# Altium footprint library MainPcblib.PcbLib: 316 footprints (part 6 of 20)
Each footprint in its own frame and in the unit in brackets; x right, y up, seen from the top. Pads: shape width x height; smd on the part's side, far side on the other; paste and mask are expansions set on the pad; w line width, h text height; cw(c..) or ccw(c..) is an arc to the next point about the centre after c.
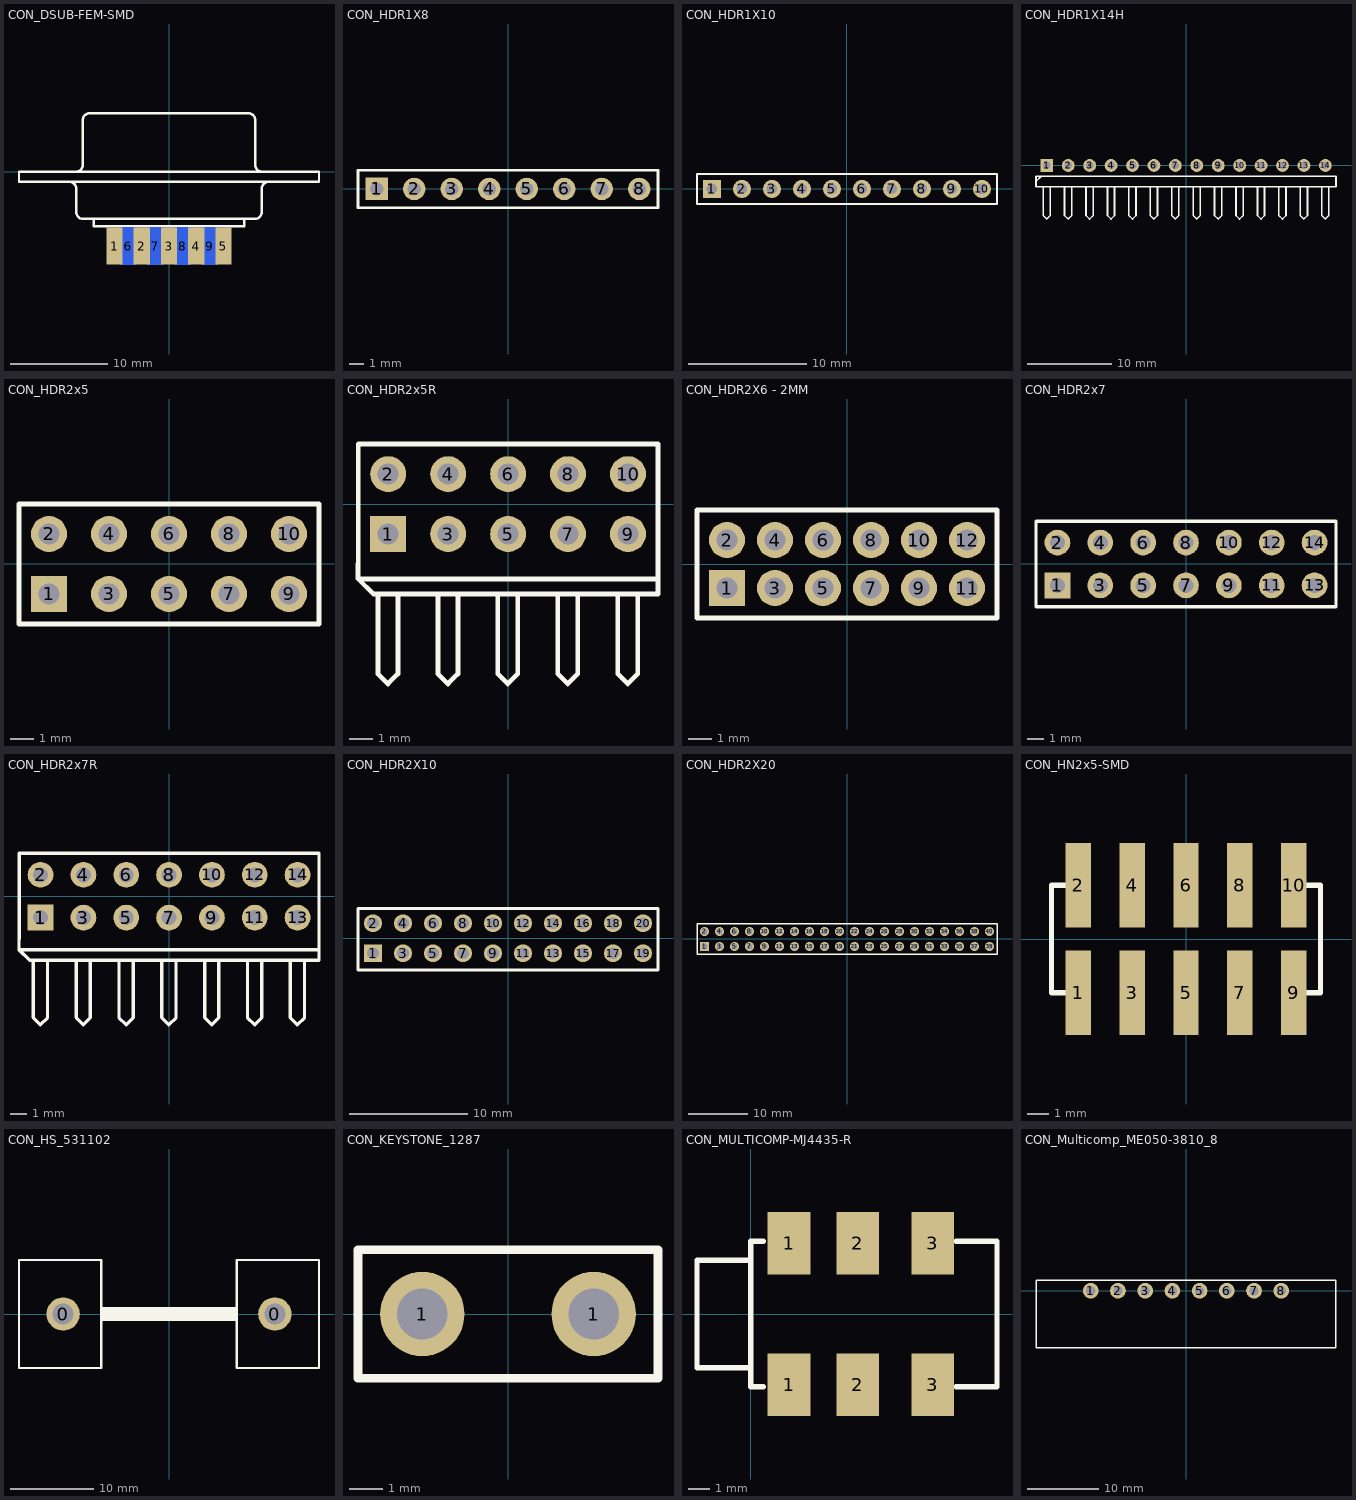
[diagram p5: the footprints below, top view; thin cyan lines are the x and y axes]

## CON_DSUB-FEM-SMD [mil]
pads (9):
  rect 65x150 smd: 1(-220,-300) 2(-110,-300) 3(0,-300) 4(110,-300) 5(220,-300)
  rect 65x150 smd far side: 6(-165,-300) 7(-55,-300) 8(55,-300) 9(165,-300)
Top Overlay:
  lines w10: -402.36,-40.14 cw(c-402.36,-67.5) -375,-67.5 -375,-160 ; -376.38,0.2 ccw(c-376.38,27.56) -349.02,27.56 -349.02,208.66 ; -374.86,-162.64 ccw(c-347.5,-162.64) -347.5,-190 ; -348.82,208.86 cw(c-321.46,208.86) -321.46,236.22 321.46,236.22 cw(c321.46,208.86) 348.82,208.86 ; -347.85,-190 347,-190 ; -305,-190 -305,-220 305,-220 305,-190 ; 347.5,-190 ccw(c347.5,-162.64) 374.86,-162.64 ; 349.02,208.66 349.02,27.56 ccw(c376.38,27.56) 376.38,0.2 ; 375,-162.64 375,-67.5 cw(c402.36,-67.5) 402.36,-40.14 ; -606.3,-40 -606.3,0 606.3,0 606.3,-40 -606.3,-40

## CON_HDR1X8 [mil]
pads (8):
  rect 60x60 hole 35: 1(-350,0)
  round 60 hole 35: 2(-250,0) 3(-150,0) 4(-50,0) 5(50,0) 6(150,0) 7(250,0) 8(350,0)
Top Overlay:
  lines w7.87: -400,-50.08 -400,49.92 400,49.92 400,-50.08 -400,-50.08

## CON_HDR1X10 [mil]
pads (10):
  rect 60x60 hole 35: 1(-450,0)
  round 60 hole 35: 2(-350,0) 3(-250,0) 4(-150,0) 5(-50,0) 6(50,0) 7(150,0) 8(250,0) 9(350,0) 10(450,0)
Top Overlay:
  lines w7.87: -499.95,-50.2 -499.95,49.8 -424.95,49.8 500.05,49.8 500.05,-50.2 -499.95,-50.2

## CON_HDR1X14H [mil]
pads (14):
  rect 60x60 hole 35: 1(-650,0)
  round 60 hole 35: 2(-550,0) 3(-450,0) 4(-350,0) 5(-250,0) 6(-150,0) 7(-50,0) 8(50,0) 9(150,0) 10(250,0) 11(350,0) 12(450,0) 13(550,0) 14(650,0)
Top Overlay:
  lines w7.87: -700.4,-74.95 -675.4,-49.95 ; -667.07,-99.95 -667.07,-233.29 -650.4,-249.95 -633.73,-233.29 -633.73,-99.95 ; -567.07,-99.95 -567.07,-233.29 -550.4,-249.95 -533.73,-233.29 -533.73,-99.95 ; -467.07,-99.95 -467.07,-233.29 -450.4,-249.95 -433.73,-233.29 -433.73,-99.95 ; -367.07,-99.95 -367.07,-233.29 -350.4,-249.95 -333.73,-233.29 -333.73,-99.95 ; -267.07,-99.95 -267.07,-233.29 -250.4,-249.95 -233.73,-233.29 -233.73,-99.95 ; -167.07,-99.95 -167.07,-233.29 -150.4,-249.95 -133.73,-233.29 -133.73,-99.95 ; -67.07,-99.95 -67.07,-233.29 -50.4,-249.95 -33.73,-233.29 -33.73,-99.95 ; 32.93,-99.95 32.93,-233.29 49.6,-249.95 66.26,-233.29 66.26,-99.95 ; 132.93,-99.95 132.93,-233.29 149.6,-249.95 166.26,-233.29 166.26,-99.95 ; 232.93,-99.95 232.93,-233.29 249.6,-249.95 266.26,-233.29 266.26,-99.95 ; 332.93,-99.95 332.93,-233.29 349.6,-249.95 366.26,-233.29 366.26,-99.95 ; 432.93,-99.95 432.93,-233.29 449.6,-249.95 466.26,-233.29 466.26,-99.95 ; 532.93,-99.95 532.93,-233.29 549.6,-249.95 566.26,-233.29 566.26,-99.95 ; 632.93,-99.95 632.93,-233.29 649.6,-249.95 666.26,-233.29 666.26,-99.95 ; -700.4,-99.95 -700.4,-49.95 -625.4,-49.95 699.6,-49.95 699.6,-99.95 -700.4,-99.95

## CON_HDR2x5 [mil]
pads (10):
  rect 60x60 hole 35: 1(-200,-50)
  round 60 hole 35: 2(-200,50) 3(-100,-50) 4(-100,50) 5(0,-50) 6(0,50) 7(100,-50) 8(100,50) 9(200,-50) 10(200,50)
Top Overlay:
  lines w7.87: -250,-100.08 -250,100 250,100 250,-100.08 -250,-100.08

## CON_HDR2x5R [mil]
pads (10):
  rect 60x60 hole 35: 1(-200,-50)
  round 60 hole 35: 2(-200,50) 3(-100,-50) 4(-100,50) 5(0,-50) 6(0,50) 7(100,-50) 8(100,50) 9(200,-50) 10(200,50)
Top Overlay:
  lines w7.87: -250.4,-99.95 -250.4,-124.6 -225.05,-149.95 250,-149.95 ; -250,-125 250,-125 ; -250,-100.08 -250,100 250,100 250,-150 ; -217.07,-149.95 -217.07,-283.29 -200.4,-299.95 -183.73,-283.29 -183.73,-149.95 ; -117.07,-149.95 -117.07,-283.29 -100.4,-299.95 -83.73,-283.29 -83.73,-149.95 ; -17.07,-149.95 -17.07,-283.29 -0.4,-299.95 16.27,-283.29 16.27,-149.95 ; 82.93,-149.95 82.93,-283.29 99.6,-299.95 116.27,-283.29 116.27,-149.95 ; 182.93,-149.95 182.93,-283.29 199.6,-299.95 216.27,-283.29 216.27,-149.95

## CON_HDR2X6 - 2MM [mil]
pads (12):
  rect 60x60 hole 35: 1(-200,-40)
  round 60 hole 35: 2(-200,40) 3(-120,-40) 4(-120,40) 5(-40,-40) 6(-40,40) 7(40,-40) 8(40,40) 9(120,-40) 10(120,40) 11(200,-40) 12(200,40)
Top Overlay:
  lines w7.87: -250,-90 -250,90 250,90 250,-90 -250,-90

## CON_HDR2x7 [mil]
pads (14):
  rect 60x60 hole 35: 1(-300,-50)
  round 60 hole 35: 2(-300,50) 3(-200,-50) 4(-200,50) 5(-100,-50) 6(-100,50) 7(0,-50) 8(0,50) 9(100,-50) 10(100,50) 11(200,-50) 12(200,50) 13(300,-50) 14(300,50)
Top Overlay:
  lines w7.87: -350,-100.08 350,-100.08 350,100 -350,100 -350,-100.08

## CON_HDR2x7R [mil]
pads (14):
  rect 60x60 hole 35: 1(-300,-50)
  round 60 hole 35: 2(-300,50) 3(-200,-50) 4(-200,50) 5(-100,-50) 6(-100,50) 7(0,-50) 8(0,50) 9(100,-50) 10(100,50) 11(200,-50) 12(200,50) 13(300,-50) 14(300,50)
Top Overlay:
  lines w7.87: -350.4,-99.95 -350.4,-124.6 -325.05,-149.95 350,-149.95 350,100 -350,100 -350,-100.08 ; -350,-125 350,-125 ; -317.07,-149.95 -317.07,-283.29 -300.4,-299.95 -283.73,-283.29 -283.73,-149.95 ; -217.07,-149.95 -217.07,-283.29 -200.4,-299.95 -183.73,-283.29 -183.73,-149.95 ; -117.07,-149.95 -117.07,-283.29 -100.4,-299.95 -83.73,-283.29 -83.73,-149.95 ; -17.07,-149.95 -17.07,-283.29 -0.4,-299.95 16.27,-283.29 16.27,-149.95 ; 82.93,-149.95 82.93,-283.29 99.6,-299.95 116.27,-283.29 116.27,-149.95 ; 182.93,-149.95 182.93,-283.29 199.6,-299.95 216.27,-283.29 216.27,-149.95 ; 282.93,-149.95 282.93,-283.29 299.6,-299.95 316.27,-283.29 316.27,-149.95

## CON_HDR2X10 [mil]
pads (20):
  rect 60x60 hole 39: 1(-450,-50)
  round 60 hole 39: 2(-450,50) 3(-350,-50) 4(-350,50) 5(-250,-50) 6(-250,50) 7(-150,-50) 8(-150,50) 9(-50,-50) 10(-50,50) 11(50,-50) 12(50,50) 13(150,-50) 14(150,50) 15(250,-50) 16(250,50) 17(350,-50) 18(350,50) 19(450,-50) 20(450,50)
Top Overlay:
  lines w10: -500,-105 -500,100 500,100 500,-105 -500,-105

## CON_HDR2X20 [mil]
pads (40):
  rect 60x60 hole 39: 1(-950,-50)
  round 60 hole 39: 2(-950,50) 3(-850,-50) 4(-850,50) 5(-750,-50) 6(-750,50) 7(-650,-50) 8(-650,50) 9(-550,-50) 10(-550,50) 11(-450,-50) 12(-450,50) 13(-350,-50) 14(-350,50) 15(-250,-50) 16(-250,50) 17(-150,-50) 18(-150,50) 19(-50,-50) 20(-50,50) 21(50,-50) 22(50,50) 23(150,-50) 24(150,50) 25(250,-50) 26(250,50) 27(350,-50) 28(350,50) 29(450,-50) 30(450,50) 31(550,-50) 32(550,50) 33(650,-50) 34(650,50) 35(750,-50) 36(750,50) 37(850,-50) 38(850,50) 39(950,-50) 40(950,50)
Top Overlay:
  lines w10: -1000,100 -824.75,100 1000,100 1000,-100.2 -999.95,-100.2 -999.95,-0.2 -999.95,99.95 -999.9,100

## CON_HN2x5-SMD [mm] "SMD pin header"
pads (10):
  rect 1.2x4 smd: 1(-5.08,-2.54) 2(-5.08,2.54) 3(-2.54,-2.54) 4(-2.54,2.54) 5(0,-2.54) 6(0,2.54) 7(2.54,-2.54) 8(2.54,2.54) 9(5.08,-2.54) 10(5.08,2.54)
Top Overlay:
  lines w0.254: -5.715,-2.54 -6.35,-2.54 -6.35,2.54 -5.715,2.54 ; 5.715,-2.54 6.35,-2.54 6.35,2.54 5.715,2.54

## CON_HS_531102 [mm] "HeatSink AAVID Thermalloy 531102B02100G"
height 40.64
pads (2):
  round 4 hole 2.5: 0(-12.7,0) 0(12.7,0)
Top Overlay:
  region: -8,0.8 -8,-0.8 8,-0.8 8,0.8
  lines w0.254: -18,-6.5 -18,6.5 -8.125,6.5 -8.125,0.65 -8.125,-6.5 -18,-6.5 ; 8.125,-6.5 18,-6.5 18,0.65 18,6.5 8.125,6.5 8.125,-6.5

## CON_KEYSTONE_1287 [mm] "PCB mounted terminal block"
pads (2):
  round 2.5 hole 1.5: 1(-2.54,0) 1(2.54,0)
Top Overlay:
  lines w0.254: -4.445,-1.905 -4.445,1.905 4.445,1.905 4.445,-1.905 -4.445,-1.905

## CON_MULTICOMP-MJ4435-R [mm] "3.5mm Phono jack, PCB, SMD"
height 5
pads (6):
  rect 2x2.9 smd: 1(1.8,-3.3) 1(1.8,3.3) 2(5,-3.3) 2(5,3.3) 3(8.5,-3.3) 3(8.5,3.3)
Top Overlay:
  lines w0.254: 0,-2.5 -2.5,-2.5 -2.5,2.5 0,2.5 ; 0.6,-3.4 0,-3.4 0,0 0,3.4 0.6,3.4 ; 9.6,-3.4 11.5,-3.4 11.5,3.4 9.6,3.4

## CON_Multicomp_ME050-3810_8 [mm] "Side-entry header with flanges"
height 7
pads (8):
  round 2.2 hole 1.3: 1(-13.335,0) 2(-9.525,0) 3(-5.715,0) 4(-1.905,0) 5(1.905,0) 6(5.715,0) 7(9.525,0) 8(13.335,0)
Top Overlay:
  lines w0.2: -21,-8 -21,1.5 21,1.5 21,-8 -21,-8